# EAGLE library part TDA7052AT (library charleses_parts_bin)
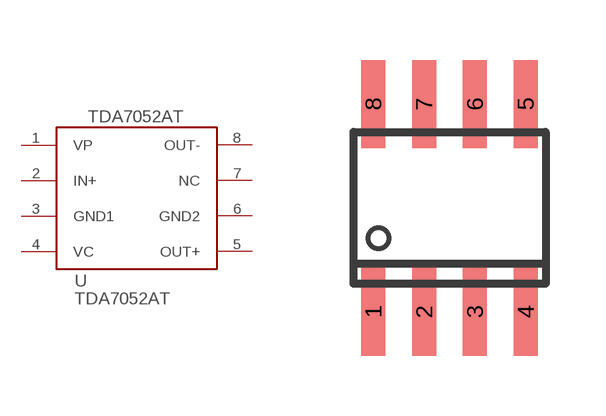
[diagram p9: symbol with the pads of SOIC8; footprint SOIC8]

Designator prefix U

## TDA7052AT  [SOIC8]
1  VP
2  IN+
3  GND1
4  VC
5  OUT+
6  GND2
7  NC
8  OUT-

## Footprint SOIC8 (pad centres in mm)
Small Outline IC
smd 0.6 x 2.2: 1 -1.905,-2.6; 2 -0.635,-2.6; 3 0.635,-2.6; 4 1.905,-2.6; 5 1.905,2.6; 6 0.635,2.6; 7 -0.635,2.6; 8 -1.905,2.6